# Altium schematic symbol library RS-485RS-422芯片.SchLib: 1 symbol
Pins are listed as number, name and electrical type; pins without a type are passive.

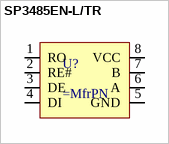
[diagram p0: symbol SP3485EN-L/TR]

## SP3485EN-L/TR
designator U?
pins: 1 RO, 2 RE#, 3 DE, 4 DI, 5 GND, 6 A, 7 B, 8 VCC